# Altium footprint library ARES_R30_Power.PcbLib: 67 footprints (part 4 of 5)
Each footprint in its own frame and in the unit in brackets; x right, y up, seen from the top. Pads: shape width x height; smd on the part's side, far side on the other; paste and mask are expansions set on the pad; w line width, h text height; cw(c..) or ccw(c..) is an arc to the next point about the centre after c.
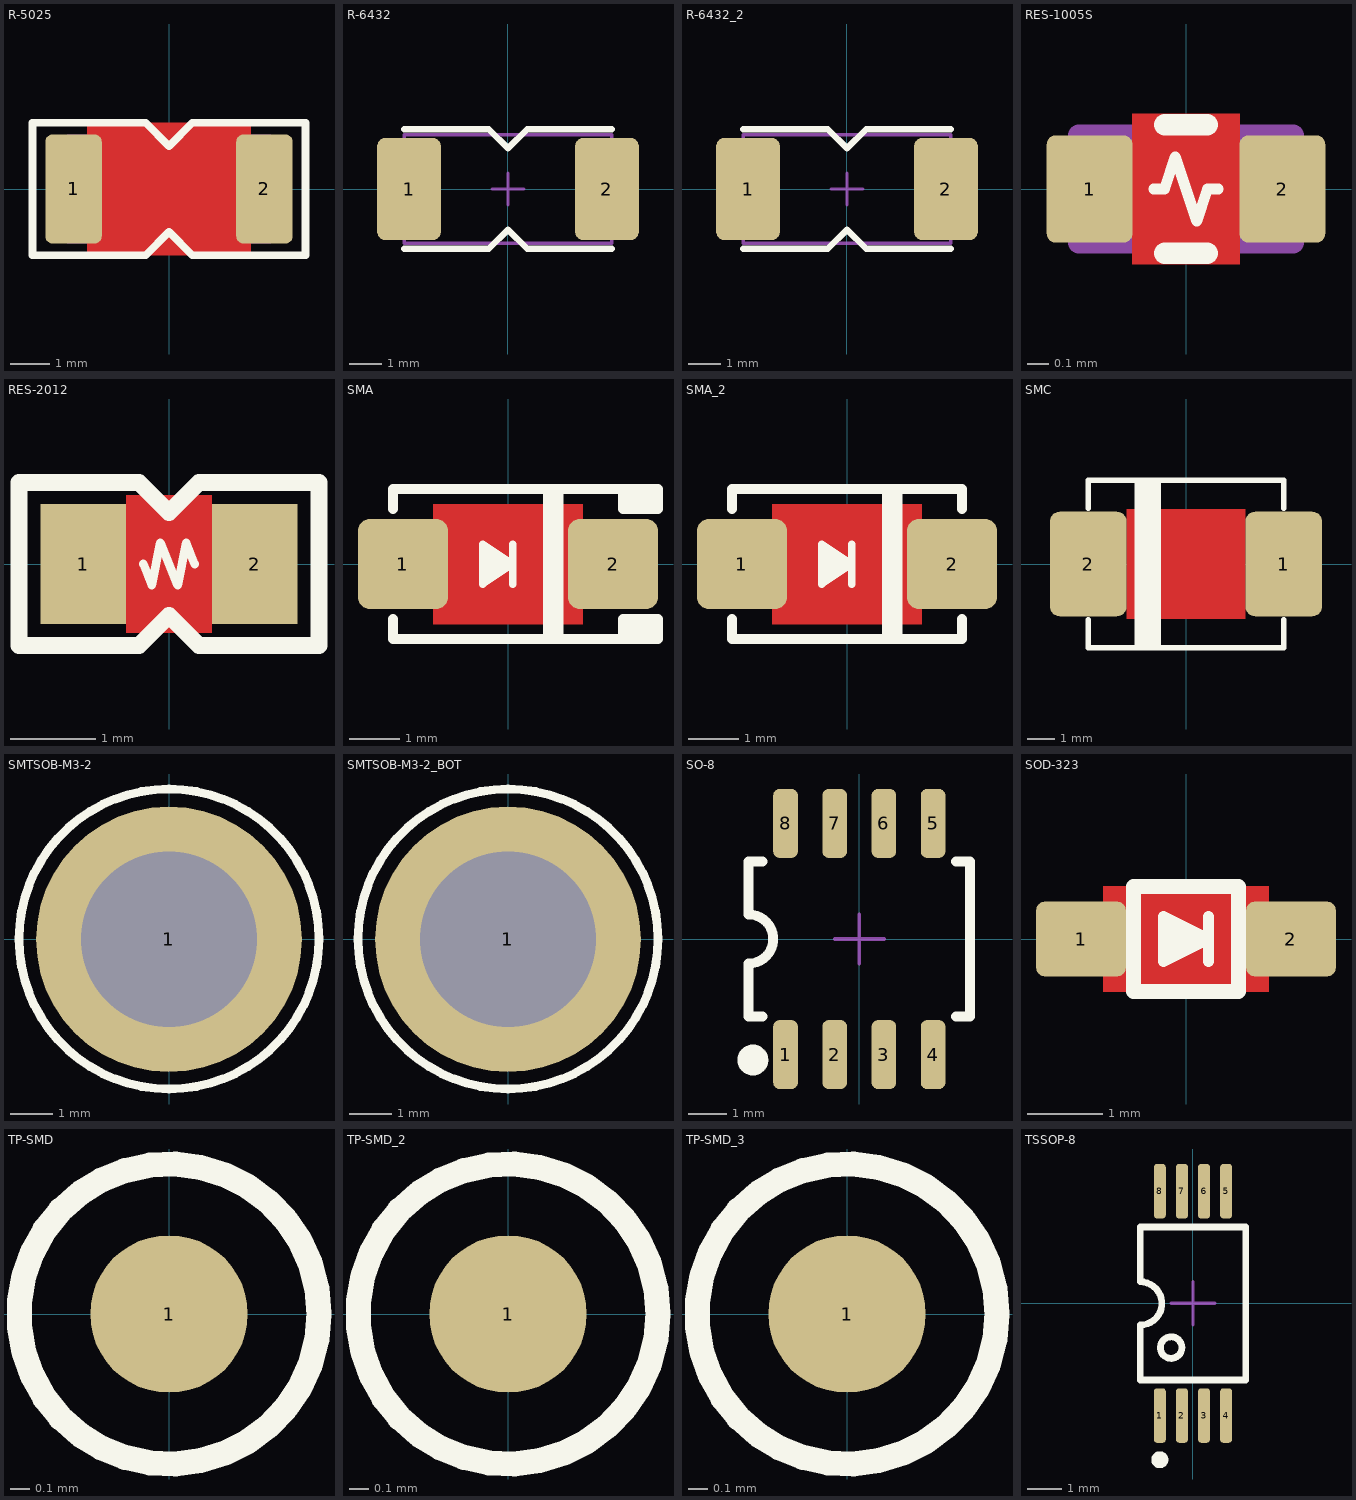
[diagram p3: the footprints below, top view; thin cyan lines are the x and y axes]

## R-5025 [mm] "2010 Chip Resistor"
height 0.71
pads (2):
  rrect25% 1.45x2.8 smd: 1(-2.45,0) 2(2.45,0)
Top Layer:
  pour cut-out: -2.1,1.7 2.1,1.7 2.1,-1.7 -2.1,-1.7
Top Overlay:
  lines w0.2: -3.5,-1.7 -3.5,1.7 -0.6,1.7 0,1.1 0.6,1.7 3.5,1.7 3.5,-1.7 0.6,-1.7 0,-1.1 -0.6,-1.7 -3.5,-1.7
Mechanical 11:
  lines w0.1: -2.6,-1.35 2.6,-1.35 2.6,1.35 -2.6,1.35 -2.6,-1.35
Mechanical 15:
  lines w0.1: -0.5,0 0.5,0 ; 0,-0.5 0,0.5
3D body "User Library-Chip Resistor 5025.step": height 0.7, standoff 0, extent -2.5,-1.25 2.5,1.25

## R-6432 [mm] "2512 Chip Resistor"
height 0.75
pads (2):
  rrect25% 2x3.2 smd: 1(-3.1,0) 2(3.1,0)
Top Overlay:
  lines w0.2: -3.25,-1.873 -0.6,-1.873 0,-1.273 0.6,-1.873 3.25,-1.873 ; -3.25,1.873 -0.6,1.873 0,1.273 0.6,1.873 3.25,1.873
Mechanical 11:
  lines w0.1: -3.25,-1.7 -3.25,1.7 3.25,1.7 3.25,-1.7 -3.25,-1.7
Mechanical 15:
  lines w0.1: -0.5,0 0.5,0 ; 0,-0.5 0,0.5
3D body "User Library-Chip Resistor 6432.step": height 0.76, standoff 0, extent -3.2,-1.6 3.2,1.6

## R-6432_2 [mm]
pads (2):
  rrect25% 2x3.2 smd: 1(-3.1,0) 2(3.1,0)
Top Overlay:
  lines w0.2: -3.25,-1.873 -0.6,-1.873 0,-1.273 0.6,-1.873 3.25,-1.873 ; -3.25,1.873 -0.6,1.873 0,1.273 0.6,1.873 3.25,1.873
Mechanical 11:
  lines w0.1: -3.25,-1.7 3.25,-1.7 3.25,1.7 -3.25,1.7 -3.25,-1.7
Mechanical 15:
  lines w0.1: -0.5,0 0.5,0 ; 0,-0.5 0,0.5
3D body "User Library-Chip Resistor 6432.step": height 0.76, standoff 0, extent -3.2,-1.6 3.2,1.6

## RES-1005S [mm] "Resistor-0402"
height 0.15
pads (2):
  rrect20% 0.4x0.5 smd: 1(-0.45,0) 2(0.45,0)
Top Layer:
  pour cut-out: -0.25,0.35 0.25,0.35 0.25,-0.35 -0.25,-0.35
Top Overlay:
  lines w0.05: -0.15,0 -0.1,0 -0.05,0.15 0.05,-0.15 0.1,0 0.15,0
  lines w0.1: -0.1,-0.3 0.1,-0.3 ; -0.1,0.3 0.1,0.3
Mechanical 8:
  lines w0.1: -0.5,-0.25 0.5,-0.25 0.5,0.25 -0.5,0.25 -0.5,-0.25
3D body "RES-0402.STEP": height 0.25, standoff 0, extent -0.5,-0.25 0.5,0.25

## RES-2012 [mm] "Resistor-0805"
height 0.65
pads (2):
  rect 1x1.4 smd: 1(-1,0) 2(1,0)
Top Layer:
  pour cut-out: -0.5,0.8 0.5,0.8 0.5,-0.8 -0.5,-0.8
Top Overlay:
  lines w0.1: -0.3,0 -0.2,-0.25 -0.1,0.25 0.1,-0.25 0.2,0.25 0.3,0
  lines w0.2: -1.75,-0.95 -1.75,0.95 -0.35,0.95 0,0.6 0.35,0.95 1.75,0.95 1.75,-0.95 0.35,-0.95 0,-0.6 -0.35,-0.95 -1.75,-0.95
3D body "RES-0805.STEP": height 0.61, standoff -0.01, extent -1.01,-0.635 1.01,0.635

## SMA [mm] "DO-214AC"
height 2.5
pads (2):
  rrect25% 1.8x1.8 smd: 1(-2.1,0) 2(2.1,0)
Top Layer:
  pour cut-out: -1.5,1.2 1.5,1.2 1.5,-1.2 -1.5,-1.2
Top Overlay:
  region: 1.1,-1.5 1.1,1.5 0.7,1.5 0.7,-1.5
  region: -0.5,0.4 -0.5,-0.4 0.1,0
  lines w0.15: 0.1,-0.4 0.1,0.4 ; -0.5,-0.4 0.1,0 -0.5,0.4 -0.5,-0.4
  lines w0.2: -2.3,-1.1 -2.3,-1.5 2.3,-1.5 ; -2.3,1.1 -2.3,1.5 2.3,1.5 ; 2.3,-1.225 3,-1.225 ; 2.3,1.275 2.325,1.25 3,1.25 ; 2.3,1.375 3,1.375 ; 2.325,-1.35 3,-1.35 ; 2.3,-1.5 3,-1.5 3,-1.1 2.3,-1.1 2.3,-1.5 ; 2.3,1.5 3,1.5 3,1.1 2.3,1.1 2.3,1.5
Mechanical 15:
  lines w0.1: -0.508,0 0.508,0 ; 0,-0.508 0,0.508
3D body "DO-214AC SMA.step": height 2.42, standoff 0.02, extent -2.6,-1.3 2.6,1.3

## SMA_2 [mm]
pads (2):
  rrect25% 1.8x1.8 smd: 1(-2.1,0) 2(2.1,0)
Top Layer:
  pour cut-out: -1.5,1.2 1.5,1.2 1.5,-1.2 -1.5,-1.2
Top Overlay:
  region: 1.1,-1.5 1.1,1.5 0.7,1.5 0.7,-1.5
  region: -0.5,0.4 -0.5,-0.4 0.1,0
  lines w0.15: 0.1,-0.4 0.1,0.4 ; -0.5,-0.4 0.1,0 -0.5,0.4 -0.5,-0.4
  lines w0.2: -2.3,-1.1 -2.3,-1.5 2.3,-1.5 2.3,-1.1 ; -2.3,1.1 -2.3,1.5 2.3,1.5 2.3,1.1
Mechanical 15:
  lines w0.1: -0.508,0 0.508,0 ; 0,-0.508 0,0.508
3D body "DO-214AC SMA.step": height 2.42, standoff 0.02, extent -2.6,-1.3 2.6,1.3

## SMC [mil]
height 98.43
pads (2):
  rrect25% 110x150 smd: 1(140,0) 2(-140,0)
Top Layer:
  pour cut-out: -84.65,78.74 84.65,78.74 84.65,-78.74 -84.65,-78.74
Top Overlay:
  region: -70,120 -40,120 -40,-120 -70,-120
  lines w7.87: -140,-80 -140,-120 140,-120 140,-80 ; -140,80 -140,120 140,120 140,80 ; -70,-120 -70,120 ; -40,-120 -40,120

## SMTSOB-M3-2 [mm]
height 4
pads (1):
  round 6.2 hole 4.1: 1(0,-0.008)
Top Overlay:
  circle w0.203: c0,0 r3.5
3D body: height 4, standoff 0, extent -2.78,-2.777 2.78,2.777

## SMTSOB-M3-2_BOT [mm]
height 4
pads (1):
  round 6.2 / inner round 4.1 / far side round 4.1 hole 4.1: 1(0,-0.008)
Top Overlay:
  circle w0.203: c0,0 r3.5
3D body: height 4, standoff 0, extent -2.78,-2.777 2.78,2.777

## SO-8 [mil] "SO-8 package, 1.27mm pitch, 0.150\" Narrow"
height 68.9
pads (8):
  rrect50% 25x70 smd: 1(-75,-117.5) 2(-25,-117.5) 3(25,-117.5) 4(75,-117.5) 5(75,117.5) 6(25,117.5) 7(-25,117.5) 8(-75,117.5)
Top Overlay:
  circle w15.75: c-108.27,-123.03 r7.87
  lines w10: -112.5,-78.74 -112.5,-25 ccw(c-112.5,0) -112.5,25 -112.5,78.74 -98.43,78.74 ; -112.5,-78.7 -98.42,-78.7 ; 98.43,-78.7 112.5,-78.7 ; 98.43,78.74 112.5,78.74 112.5,-78.74
Mechanical 15:
  lines w3.94: -25,0 25,0 ; 0,-25 0,25
3D body "User Library-SOIC-8-1.step": height 68.9, standoff 0, extent -96.45,-118.11 96.46,118.12

## SOD-323 [mm] "1.7X1.25mm Body Diode Package"
height 1
pads (2):
  rrect25% 1.2x1 smd: 1(-1.4,0) 2(1.4,0)
Top Layer:
  pour cut-out: -1.1,0.7 1.1,0.7 1.1,-0.7 -1.1,-0.7
Top Overlay:
  region: -0.3,0.3 -0.3,-0.3 0.3,0
  lines w0.15: 0.3,-0.3 0.3,0.3 ; -0.3,-0.3 0.3,0 -0.3,0.3 -0.3,-0.3
  lines w0.2: -0.7,-0.7 -0.7,0.7 0.7,0.7 0.7,-0.7 -0.7,-0.7
Mechanical 15:
  lines w0.1: -0.508,0 0.508,0 ; 0,-0.508 0,0.508
3D body "SOD-323.step": height 1.1, standoff 0, extent -1.3,-0.675 1.3,0.675

## TP-SMD [mm]
height 25
pads (1):
  round 0.8 smd: 1(0,0)
Top Overlay:
  circle w0.127: c0,0 r0.762

## TP-SMD_2 [mm]
pads (1):
  round 0.8 smd: 1(0,0)
Top Overlay:
  circle w0.127: c0,0 r0.762

## TP-SMD_3 [mm]
pads (1):
  round 0.8 smd: 1(0,0)
Top Overlay:
  circle w0.127: c0,0 r0.762

## TSSOP-8 [mm]
height 1.2
pads (8):
  rrect50% 0.35x1.6 smd: 1(-0.975,-3.3) 2(-0.325,-3.3) 3(0.325,-3.3) 4(0.975,-3.3) 5(0.975,3.3) 6(0.325,3.3) 7(-0.325,3.3) 8(-0.975,3.3)
Top Overlay:
  circle w0.2: c-0.643,-1.3 r0.318
  circle w0.25: c-0.975,-4.6 r0.125
  lines w0.2: -1.55,-2.25 1.55,-2.25 1.55,2.25 -1.55,2.25 -1.55,0.635 cw(c-1.55,0) -1.55,-0.635 -1.55,-2.25
Mechanical 15:
  lines w0.1: -0.635,0 0.635,0 ; 0,-0.635 0,0.635
3D body "User Library-TSS0P8-1.step": height 1.09, standoff 0, extent -1.5,-3.14 1.5,3.14